# Altium schematic symbol library CanNode.SchLib: 7 symbols
Pins are listed as number, name and electrical type; pins without a type are passive.

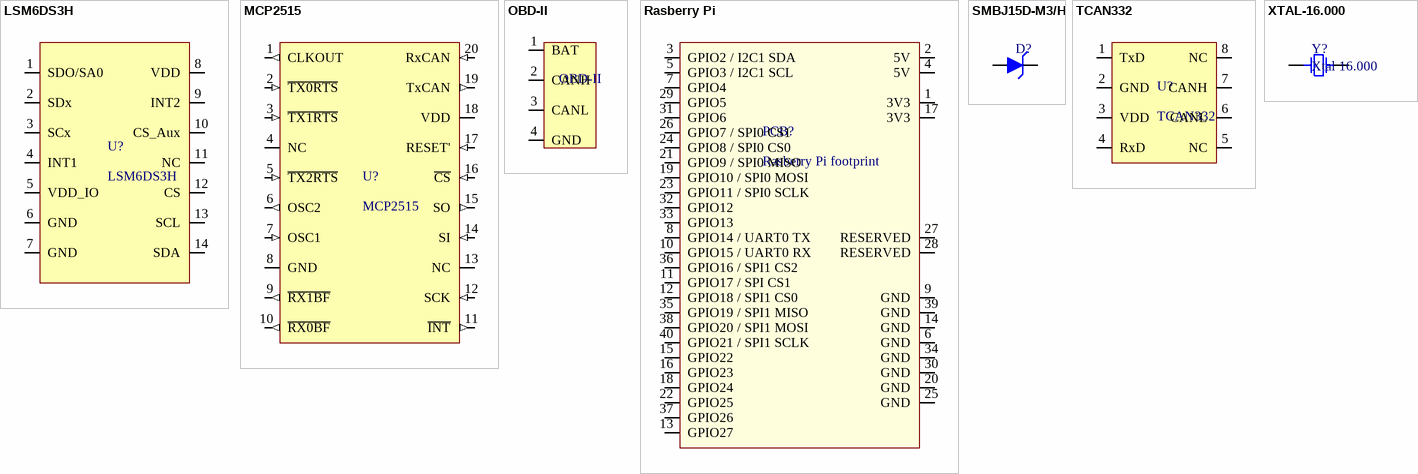
[diagram p0: symbols LSM6DS3H to XTAL-16.000]

## LSM6DS3H
designator U?
IMU ACCEL/GYRO/TEMP I2C/SPI LGA; Mfr 1: STMicroelectronics; Digi-Key Part Number: 497-16367-1-ND
pins: 1 SDO/SA0, 2 SDx, 3 SCx, 4 INT1, 5 VDD_IO, 6 GND, 7 GND, 8 VDD, 9 INT2, 10 CS_Aux, 11 NC, 12 CS, 13 SCL, 14 SDA

## MCP2515
designator U?
IC CAN CTLR W/SPI 2.0B 20-QFN; Mfr 1: Microchip Technology; Digi-Key Part Number: MCP2515T-I/MLCT-ND
footprint MCP2515 (IC CAN CTLR W/SPI 2.0B 20-QFN)
pins: 1 CLKOUT (out), 2 ~{TX0RTS} (in) "Transmit buffer TXB0 Request-to-Send,100k internal pullup to VDD", 3 ~{TX1RTS} (in) "Transmit buffer TXB1 Request-to-Send; 100k internal pull-up to VDD", 4 NC "No Internal connection", 5 ~{TX2RTS} (in) "Transmit buffer TXB2 Request-to-Send; 100k pullup to VDD", 6 OSC2 (out), 7 OSC1 (in), 8 GND (power), 9 ~{RX1BF} (out) "Receive buffer RXB1 interrupt pin or general purpose digital output", 10 ~{RX0BF} (out) "Receive buffer RXB0 interrupt pin or general purpose digital output", 11 ~{INT} (out) "Interrupt output pin", 12 SCK (in), 13 NC "No Internal Connection\", 14 SI (in), 15 SO (out), 16 ~{CS} (in) "Chip select input pin for SPI interface", 17 RESET' (in), 18 VDD (power), 19 TxCAN (out) "Transmit output pin to CAN bus", 20 RxCAN (in) "Receive input pin from CAN bus"

## OBD-II
designator OBD-II  (value not drawn)
footprint OBD_II
pins: 1 BAT, 2 CANH, 3 CANL, 4 GND

## Rasberry Pi
designator PCB?, comment Rasberry Pi footprint
footprint Rasberry PI (Rasberry PI footprint)
pins: 1 3V3, 2 5V, 3 GPIO2 / I2C1 SDA, 4 5V, 5 GPIO3 / I2C1 SCL, 6 GND, 7 GPIO4, 8 GPIO14 / UART0 TX, 9 GND, 10 GPIO15 / UART0 RX, 11 GPIO17 / SPI CS1, 12 GPIO18 / SPI1 CS0, 13 GPIO27, 14 GND, 15 GPIO22, 16 GPIO23, 17 3V3, 18 GPIO24, 19 GPIO10 / SPI0 MOSI, 20 GND, 21 GPIO9 / SPI0 MISO, 22 GPIO25, 23 GPIO11 / SPI0 SCLK, 24 GPIO8 / SPI0 CS0, 25 GND, 26 GPIO7 / SPI0 CS1, 27 RESERVED, 28 RESERVED, 29 GPIO5, 30 GND, 31 GPIO6, 32 GPIO12, 33 GPIO13, 34 GND, 35 GPIO19 / SPI1 MISO, 36 GPIO16 / SPI1 CS2, 37 GPIO26, 38 GPIO20 / SPI1 MOSI, 39 GND, 40 GPIO21 / SPI1 SCLK

## SMBJ15D-M3/H
designator D?, comment TVS Diode  (value not drawn)
TVS DIODE 15VWM 24VC DO214AA; Manufacturer: Vishay Semiconductor Diodes Division; Manufacturer Part Number: SMBJ15D-M3/H; Type: Zener; Unidirectional Channels: 1; Voltage - Reverse Standoff (Typ): 15V; Voltage - Breakdown (Min): 17V; Voltage - Clamping (Max) @ Ipp: 24V; Current - Peak Pulse (10/1000µs): 25A; Power - Peak Pulse: 600W; Power Line Protection: No; Supplier 1: Digi-Key; Pricing 1: 1=0.51, 10=0.42, 25=0.3832, 100=0.2853, 250=0.25852 (CAD); Packaging: Cut Tape (CT); Part Status: Active; Bidirectional Channels: -; Applications: General Purpose; Capacitance @ Frequency: -; Operating Temperature: -55°C ~ 150°C (TJ); Mounting Type: Surface Mount; Package / Case: DO-214AA, SMB; Supplier Device Package: DO-214AA (SMBJ); ComponentLink1URL: http://www.vishay.com/docs/87606/87606.pdf; ComponentLink1Description: http://www.vishay.com/docs/87606/87606.pdf; Supplier Part Number 1: SMBJ15D-M3/HGICT-ND
footprint TVS Diode 15
pins: 1, 2

## TCAN332
designator U?
IC TXRX CAN 8SOIC; Mfr 1: Texas Instruments; Digi-Key Part Number: 296-43711-1-ND
footprint SOIC-8 (DMP3037LSS)
pins: 1 TxD, 2 GND, 3 VDD, 4 RxD, 5 NC, 6 CANL, 7 CANH, 8 NC

## XTAL-16.000
designator Y?, comment Xtal 16.000
XTAL16.0000MHZ 18PF SMD; Manufacturer: Abracon LLC; Manufacturer Part Number: ABM7-16.000MHZ-D2Y-T; Frequency: 16MHz; Frequency Stability: ±30ppm; Frequency Tolerance: ±20ppm; ESR (Equivalent Series Resistance): 50 Ohm; Operating Mode: Fundamental; Supplier 1: Digi-Key; Pricing 1: 1=1.12, 10=0.989, 50=0.9234, 100=0.8162, 500=0.77322 (CAD); Packaging: Cut Tape (CT); Part Status: Active; Type: MHz Crystal; Load Capacitance: 18pF; Operating Temperature: -40°C ~ 85°C; Ratings: -; Mounting Type: Surface Mount; Package / Case: 2-SMD, No Lead; Size / Dimension: 0.236" L x 0.138" W (6.00mm x 3.50mm); Height - Seated (Max): 0.055" (1.40mm); ComponentLink1URL: http://www.abracon.com/Resonators/abm7.pdf; ComponentLink1Description: http://www.abracon.com/Resonators/abm7.pdf; Supplier Part Number 1: 535-9840-1-ND
footprint XTAL-16.000
pins: 0, 1